# Altium schematic symbol library G_11_schlib.SchLib: 1 symbol
Pins are listed as number, name and electrical type; pins without a type are passive.

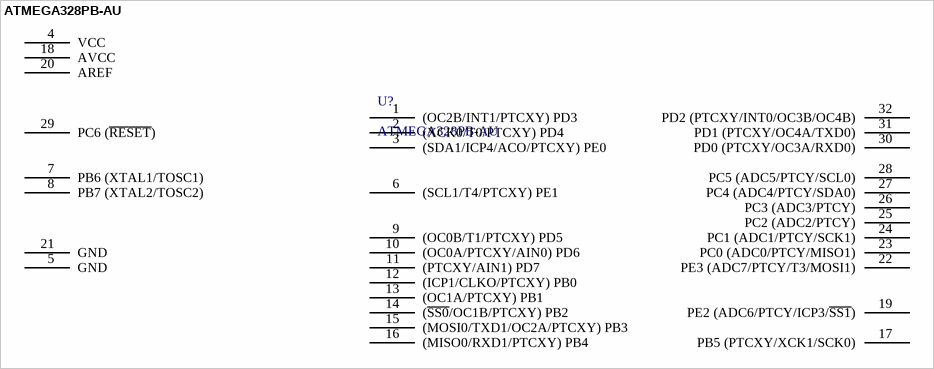
[diagram p0: symbol ATMEGA328PB-AU]

## ATMEGA328PB-AU
designator U?
AVR 32KBYTES Flash, 1KBYTES EEPROM, 2KBYTES Ram, W - 20MHZ, TQFP, Ind Temp, Green 5 V; Manufacturer: Microchip; Supplier 1: RSComponents; Manufacturer Part Number: ATMEGA328PB-AU; RoHS: Yes; Category: Microcontrollers; Stock 1: 25; Pricing 1: 250=1.87300 (USD); Case/Package: TQFP; RoHS Compliant: Yes; ComponentLink1URL: http://www.farnell.com/datasheets/2915218.pdf?src-supplier=Farnell; ComponentLink1Description: http://www.farnell.com/datasheets/2915218.pdf?src-supplier=Farnell; ComponentLink2URL: http://www.farnell.com/datasheets/2915218.pdf?src-supplier=Newark; ComponentLink2Description: http://www.farnell.com/datasheets/2915218.pdf?src-supplier=Newark; ComponentLink3URL: http://www.microchip.com/mymicrochip/filehandler.aspx?ddocname=en589666&src-supplier=Digi-Key; ComponentLink3Description: http://www.microchip.com/mymicrochip/filehandler.aspx?ddocname=en589666&src-supplier=Digi-Key; Supplier Part Number 1: 1463221
pins: 1 (OC2B/INT1/PTCXY) PD3, 2 (XCK0/T0/PTCXY) PD4, 3 (SDA1/ICP4/ACO/PTCXY) PE0, 4 VCC, 5 GND, 6 (SCL1/T4/PTCXY) PE1, 7 PB6 (XTAL1/TOSC1) , 8 PB7 (XTAL2/TOSC2) , 9 (OC0B/T1/PTCXY) PD5, 10 (OC0A/PTCXY/AIN0) PD6, 11 (PTCXY/AIN1) PD7, 12 (ICP1/CLKO/PTCXY) PB0, 13 (OC1A/PTCXY) PB1, 14 (~{SS0}/OC1B/PTCXY) PB2, 15 (MOSI0/TXD1/OC2A/PTCXY) PB3, 16 (MISO0/RXD1/PTCXY) PB4, 17 PB5 (PTCXY/XCK1/SCK0), 18 AVCC, 19 PE2 (ADC6/PTCY/ICP3/~{SS1}), 20 AREF, 21 GND, 22 PE3 (ADC7/PTCY/T3/MOSI1), 23 PC0 (ADC0/PTCY/MISO1), 24 PC1 (ADC1/PTCY/SCK1), 25 PC2 (ADC2/PTCY), 26 PC3 (ADC3/PTCY), 27 PC4 (ADC4/PTCY/SDA0), 28 PC5 (ADC5/PTCY/SCL0), 29 PC6 (~{RESET}), 30 PD0 (PTCXY/OC3A/RXD0), 31 PD1 (PTCXY/OC4A/TXD0), 32 PD2 (PTCXY/INT0/OC3B/OC4B)